# EAGLE library part S-CN-FPC0.5-40 (library Header and Connector)
SMD FPC Connector 0.5mm Pitch 40 way
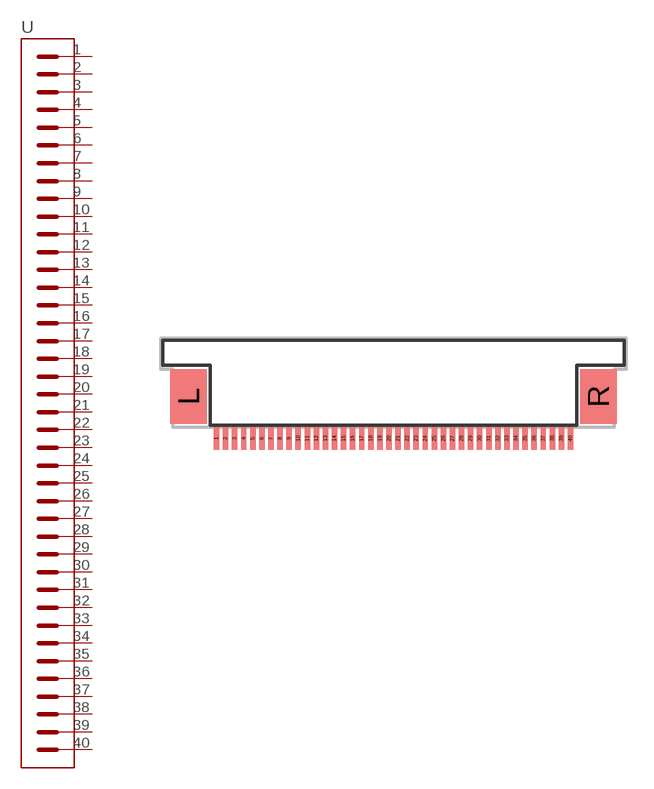
[diagram p33: symbol with the pads of S-CN-FPC0.5-40; footprint S-CN-FPC0.5-40]

Designator prefix -

## S-CN-FPC0.5-40 (CYTRON-PC: S-CN-FPC0.5-40; DESC: S FPC Connector 0.5mm Pitch 40 way; MF: MSTCOM; MPN: 0.5K-AS-40PWB)  [S-CN-FPC0.5-40]
1  1  pas
2  2  pas
3  3  pas
4  4  pas
5  5  pas
6  6  pas
7  7  pas
8  8  pas
9  9  pas
10  10  pas
11  11  pas
12  12  pas
13  13  pas
14  14  pas
15  15  pas
16  16  pas
17  17  pas
18  18  pas
19  19  pas
20  20  pas
21  21  pas
22  22  pas
23  23  pas
24  24  pas
25  25  pas
26  26  pas
27  27  pas
28  28  pas
29  29  pas
30  30  pas
31  31  pas
32  32  pas
33  33  pas
34  34  pas
35  35  pas
36  36  pas
37  37  pas
38  38  pas
39  39  pas
40  40  pas

## Footprint S-CN-FPC0.5-40 (pad centres in mm)
SMD FPC Connector 40 ways. Size: 25.65 x 4.9mm Pitch: 0.5mm Created by: OoiBP
smd 0.3 x 1.25: 1 -9.75,-0.625; 2 -9.25,-0.625; 3 -8.75,-0.625; 4 -8.25,-0.625; 5 -7.75,-0.625; 6 -7.25,-0.625; 7 -6.75,-0.625; 8 -6.25,-0.625; 9 -5.75,-0.625; 10 -5.25,-0.625; 11 -4.75,-0.625; 12 -4.25,-0.625; 13 -3.75,-0.625; 14 -3.25,-0.625; 15 -2.75,-0.625; 16 -2.25,-0.625; 17 -1.75,-0.625; 18 -1.25,-0.625; 19 -0.75,-0.625; 20 -0.25,-0.625; 21 0.25,-0.625; 22 0.75,-0.625; 23 1.25,-0.625; 24 1.75,-0.625; 25 2.25,-0.625; 26 2.75,-0.625; 27 3.25,-0.625; 28 3.75,-0.625; 29 4.25,-0.625; 30 4.75,-0.625; 31 5.25,-0.625; 32 5.75,-0.625; 33 6.25,-0.625; 34 6.75,-0.625; 35 7.25,-0.625; 36 7.75,-0.625; 37 8.25,-0.625; 38 8.75,-0.625; 39 9.25,-0.625; 40 9.75,-0.625
smd 2 x 3: L -11.29,1.7; R 11.29,1.7